# EAGLE library part ARDUINO-NANO (library Arduino-nano)
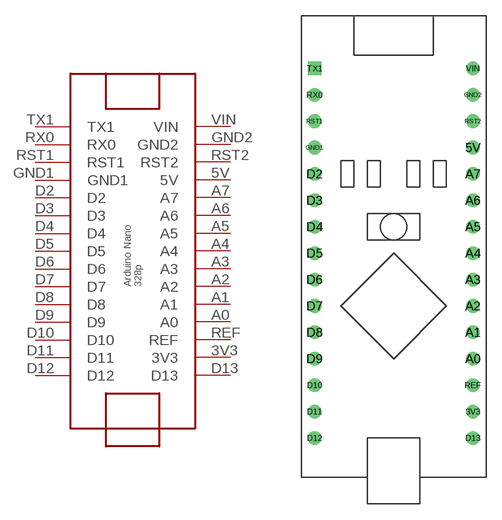
[diagram p0: symbol with the pads of ARDUINO-NANO; footprint ARDUINO-NANO]

Designator prefix ARDUINO-NANO

## ARDUINO-NANO  [ARDUINO-NANO]
3V3  3V3  out
5V  5V
A0  A0
A1  A1
A2  A2
A3  A3
A4  A4
A5  A5
A6  A6
A7  A7  out
D2  D2
D3  D3
D4  D4
D5  D5
D6  D6
D7  D7
D8  D8
D9  D9
D10  D10
D11  D11
D12  D12
D13  D13
GND1  GND1  in
GND2  GND2
REF  REF  out
RST1  RST1  in
RST2  RST2
RX0  RX0  in
TX1  TX1  out
VIN  VIN  in

## Footprint ARDUINO-NANO (pad centres in mm)
drill 0.8: 3V3 7.62,-16.51; 5V 7.62,8.89; A0 7.62,-11.43; A1 7.62,-8.89; A2 7.62,-6.35; A3 7.62,-3.81; A4 7.62,-1.27; A5 7.62,1.27; A6 7.62,3.81; A7 7.62,6.35; D2 -7.62,6.35; D3 -7.62,3.81; D4 -7.62,1.27; D5 -7.62,-1.27; D6 -7.62,-3.81; D7 -7.62,-6.35; D8 -7.62,-8.89; D9 -7.62,-11.43; D10 -7.62,-13.97; D11 -7.62,-16.51; D12 -7.62,-19.05; D13 7.62,-19.05; GND1 -7.62,8.89; GND2 7.62,13.97; REF 7.62,-13.97; RST1 -7.62,11.43; RST2 7.62,11.43; RX0 -7.62,13.97; VIN 7.62,16.51
drill 0.8 square: TX1 -7.62,16.51